# EAGLE library part 6N137 (library den)
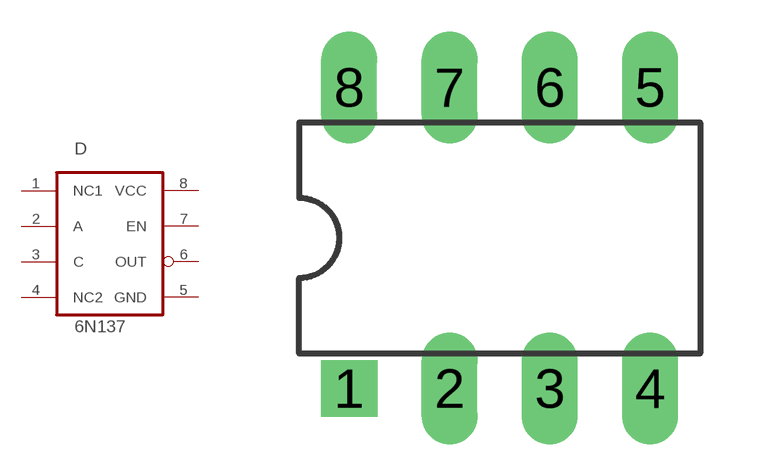
[diagram p17: symbol with the pads of DIL08; footprint DIL08]

Designator prefix D

## 6N137  [DIL08]
1  NC1  out
2  A
3  C
4  NC2  out
5  GND
6  OUT  out
7  EN
8  VCC

## Footprint DIL08 (pad centres in mm)
Dual In Line Package
drill 0.8 pad 1.422 square: 1 -3.81,-3.81
drill 0.8 pad 1.422 long: 2 -1.27,-3.81; 3 1.27,-3.81; 4 3.81,-3.81; 5 3.81,3.81; 6 1.27,3.81; 7 -1.27,3.81; 8 -3.81,3.81